# Altium footprint library SM_DHVQFN14.PcbLib: 1 footprints
Each footprint in its own frame and in the unit in brackets; x right, y up, seen from the top. Pads: shape width x height; smd on the part's side, far side on the other; paste and mask are expansions set on the pad; w line width, h text height; cw(c..) or ccw(c..) is an arc to the next point about the centre after c.
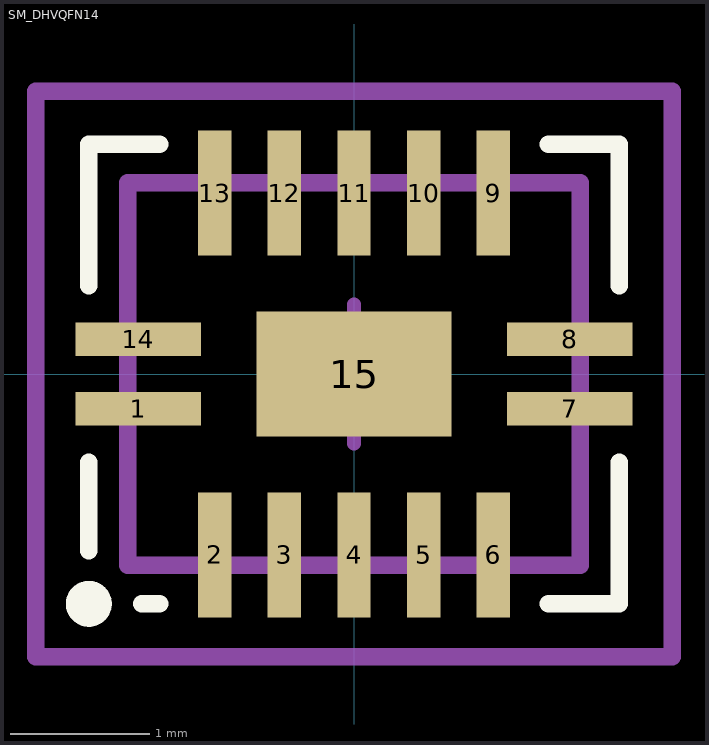
[diagram p0: the footprint, top view; thin cyan lines are the x and y axes]

## SM_DHVQFN14 [mm] "DHVQFN14, 14-terminals, Body 3x2.5mm, Pitch 0.5mm, Thermal Pad"
height 1
pads (15):
  rect 0.9x0.24 smd mask+0.076: 1(-1.55,-0.25) 7(1.55,-0.25) 8(1.55,0.25) 14(-1.55,0.25)
  rect 0.24x0.9 smd mask+0.076: 2(-1,-1.3) 3(-0.5,-1.3) 4(0,-1.3) 5(0.5,-1.3) 6(1,-1.3) 9(1,1.3) 10(0.5,1.3) 11(0,1.3) 12(-0.5,1.3) 13(-1,1.3)
  rect 1.4x0.9 smd paste+0 mask+0.076: 15(0,0)
Top Overlay:
  circle w0.178: c-1.905,-1.651 r0.076
  lines w0.127: -1.905,-1.27 -1.905,-0.635 ; -1.905,0.635 -1.905,1.651 -1.397,1.651 ; -1.524,-1.651 -1.397,-1.651 ; 1.397,-1.651 1.905,-1.651 1.905,-0.635 ; 1.397,1.651 1.905,1.651 1.905,0.635
Mechanical 1:
  lines w0.127: -1.625,-1.375 1.625,-1.375 1.625,1.375 -1.625,1.375 -1.625,-1.375
Mechanical 15:
  lines w0.1: -0.5,0 0.5,0 ; 0,-0.5 0,0.5
  lines w0.127: -2.286,-2.032 2.286,-2.032 2.286,2.032 -0.127,2.032 -2.286,2.032 -2.286,-2.032
3D body: height 13.23, standoff -13.23, extent -1.375,1 -1.375,1
3D body: height 1, standoff 0, extent -1.625,-1.375 1.625,1.375
3D body: height 13.23, standoff -13.23, extent -1.27,-1.016 -1.27,-1.016
3D body: height 1.01, standoff 1, extent -1.524,-1.27 -1.016,-0.762